# Altium footprint library Buttons.PcbLib: 37 footprints (part 3 of 3)
Each footprint in its own frame and in the unit in brackets; x right, y up, seen from the top. Pads: shape width x height; smd on the part's side, far side on the other; paste and mask are expansions set on the pad; w line width, h text height; cw(c..) or ccw(c..) is an arc to the next point about the centre after c.
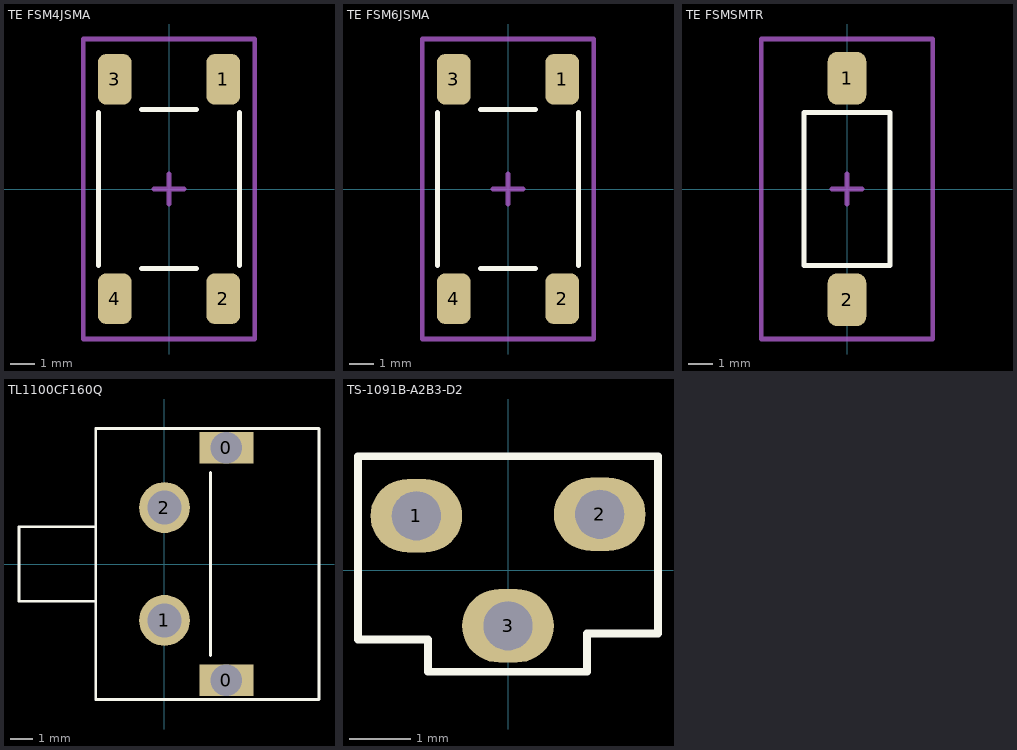
[diagram p2: the footprints below, top view; thin cyan lines are the x and y axes]

## TE FSM4JSMA [mm]
height 5.08
pads (4):
  rrect50% 1.4x2.1 smd: 1(2.25,4.55) 2(2.25,-4.55) 3(-2.25,4.55) 4(-2.25,-4.55)
Top Overlay:
  lines w0.2: -2.921,-3.175 -2.921,3.175 ; -1.143,-3.302 1.143,-3.302 ; -1.143,3.302 1.143,3.302 ; 2.921,-3.175 2.921,3.175
Mechanical 15:
  lines w0.2: -0.635,0 0.635,0 ; 0,-0.635 0,0.635 ; -3.556,-6.223 -3.556,6.223 3.556,6.223 3.556,-6.223 -3.556,-6.223
3D body "FSM4JSMA.STEP": height 5.08, standoff 0, extent -3,-5 3,5

## TE FSM6JSMA [mm]
height 7.11
pads (4):
  rrect50% 1.4x2.1 smd: 1(2.25,4.55) 2(2.25,-4.55) 3(-2.25,4.55) 4(-2.25,-4.55)
Top Overlay:
  lines w0.2: -2.921,-3.175 -2.921,3.175 ; -1.143,-3.302 1.143,-3.302 ; -1.143,3.302 1.143,3.302 ; 2.921,-3.175 2.921,3.175
Mechanical 15:
  lines w0.2: -0.635,0 0.635,0 ; 0,-0.635 0,0.635 ; -3.556,-6.223 3.556,-6.223 3.556,6.223 -3.556,6.223 -3.556,-6.223
3D body "FSM6JSMA.STEP": height 7.11, standoff 0, extent -3,-5 3,5

## TE FSMSMTR [mm]
height 4.42
pads (2):
  rrect50% 1.6x2.19 smd: 1(0,4.595) 2(0,-4.595)
Top Overlay:
  lines w0.2: -1.778,-3.175 -1.778,3.175 1.778,3.175 1.778,-3.175 -1.778,-3.175
Mechanical 15:
  lines w0.2: -0.635,0 0.635,0 ; 0,-0.635 0,0.635 ; -3.556,-6.223 3.556,-6.223 3.556,6.223 -3.556,6.223 -3.556,-6.223
3D body "FSMSMTR.STEP": height 4.42, standoff 0, extent -1.75,-4.984 1.75,4.985

## TL1100CF160Q [mm]
pads (4):
  rect 2.4x1.4 hole 1.4 square unplated: 0(2.743,-5.156) 0(2.743,5.156)
  round 2.25 hole 1.5: 1(0,-2.5) 2(0,2.5)
Top Overlay:
  lines w0.127: 2.032,-4.064 2.032,4.064 ; -3.05,-1.65 -3.05,-6 6.85,-6 6.85,6 -3.05,6 -3.05,1.65 ; -3.05,-1.65 -3.05,1.65 ; -3.05,-1.65 -6.45,-1.65 -6.45,1.65 -3.05,1.65
3D body "TL1100CF160Q.step": height 14.71, standoff -3.59, extent -6.448,-6.525 6.858,6.575

## TS-1091B-A2B3-D2 [mm]
pads (3):
  oval 1.5x1.2 hole 0.8: 1(-1.5,0.888) 2(1.5,0.913) 3(0,-0.912)
Top Overlay:
  lines w0.127: -1.308,-1.664 -1.308,-1.137 -2.455,-1.137 -2.455,1.863 2.453,1.863 2.453,-1.037 1.292,-1.037 ; -1.302,-1.664 1.292,-1.664 1.292,-1.037 ; 1.292,-1.137 1.292,-1.037 ; 2.392,-1.037 1.292,-1.037
Mechanical 17:
  text "OC" at 1.625,1.013 h0.2
  text "OC" at -1.375,1.013 h0.2
  text "OC" at 0.125,-0.837 h0.2
3D body "SW-TH_3P-L4.5-W3.5-P3.00-LS1.9.step": height 4.51, standoff -1.99, extent -2.258,-2.325 2.252,1.675